# Altium schematic symbol library OPA856IDSGR.Schlib: 1 symbol
Pins are listed as number, name and electrical type; pins without a type are passive.

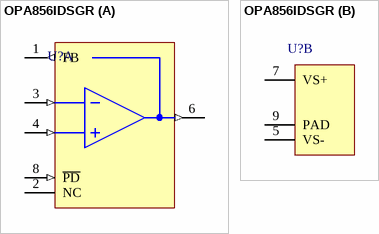
[diagram p0: symbol OPA856IDSGR]

## OPA856IDSGR
designator U?
part A pins: 1 FB (out), 2 NC, 3 IN- (in), 4 IN+ (in), 6 OUT (out), 8 ~{PD} (in)
part B pins: 5 VS- (power), 7 VS+ (power), 9 PAD